# Altium schematic symbol library BJT.SchLib: 7 symbols
Pins are listed as number, name and electrical type; pins without a type are passive.

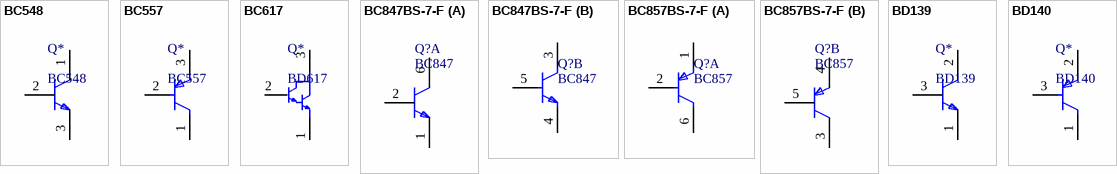
[diagram p0: symbols BC548 to BD140]

## BC548
designator Q*
footprint TO-92D
footprint TO-92A
footprint TO-92B
footprint TO-92C
pins: 1, 2, 3

## BC557
designator Q*
footprint TO-92A
footprint TO-92B
footprint TO-92C
footprint TO-92D
pins: 1, 2, 3

## BC617
designator Q*, comment BD617
footprint TO-92A
footprint TO-92B
footprint TO-92C
footprint TO-92D
pins: 1 3, 2, 3 1
3 alternate drawings of the same symbol

## BC847BS-7-F
designator Q?, comment BC847
footprint SOT363_0
part A pins: 1 E2, 2 B2, 6 C2
part B pins: 3 C1, 4 E1, 5 B1

## BC857BS-7-F
designator Q?, comment BC857
footprint SOT363_0
part A pins: 1 E1, 2 B1, 6 C1
part B pins: 3 C2, 4 E2, 5 B2

## BD139
designator Q*
footprint TO-126
footprint TO-126H
pins: 1, 2, 3

## BD140
designator Q*
footprint TO-126
footprint TO-126H
pins: 1, 2, 3